# Altium footprint library TV1.PcbLib: 26 footprints (part 1 of 2)
Each footprint in its own frame and in the unit in brackets; x right, y up, seen from the top. Pads: shape width x height; smd on the part's side, far side on the other; paste and mask are expansions set on the pad; w line width, h text height; cw(c..) or ccw(c..) is an arc to the next point about the centre after c.
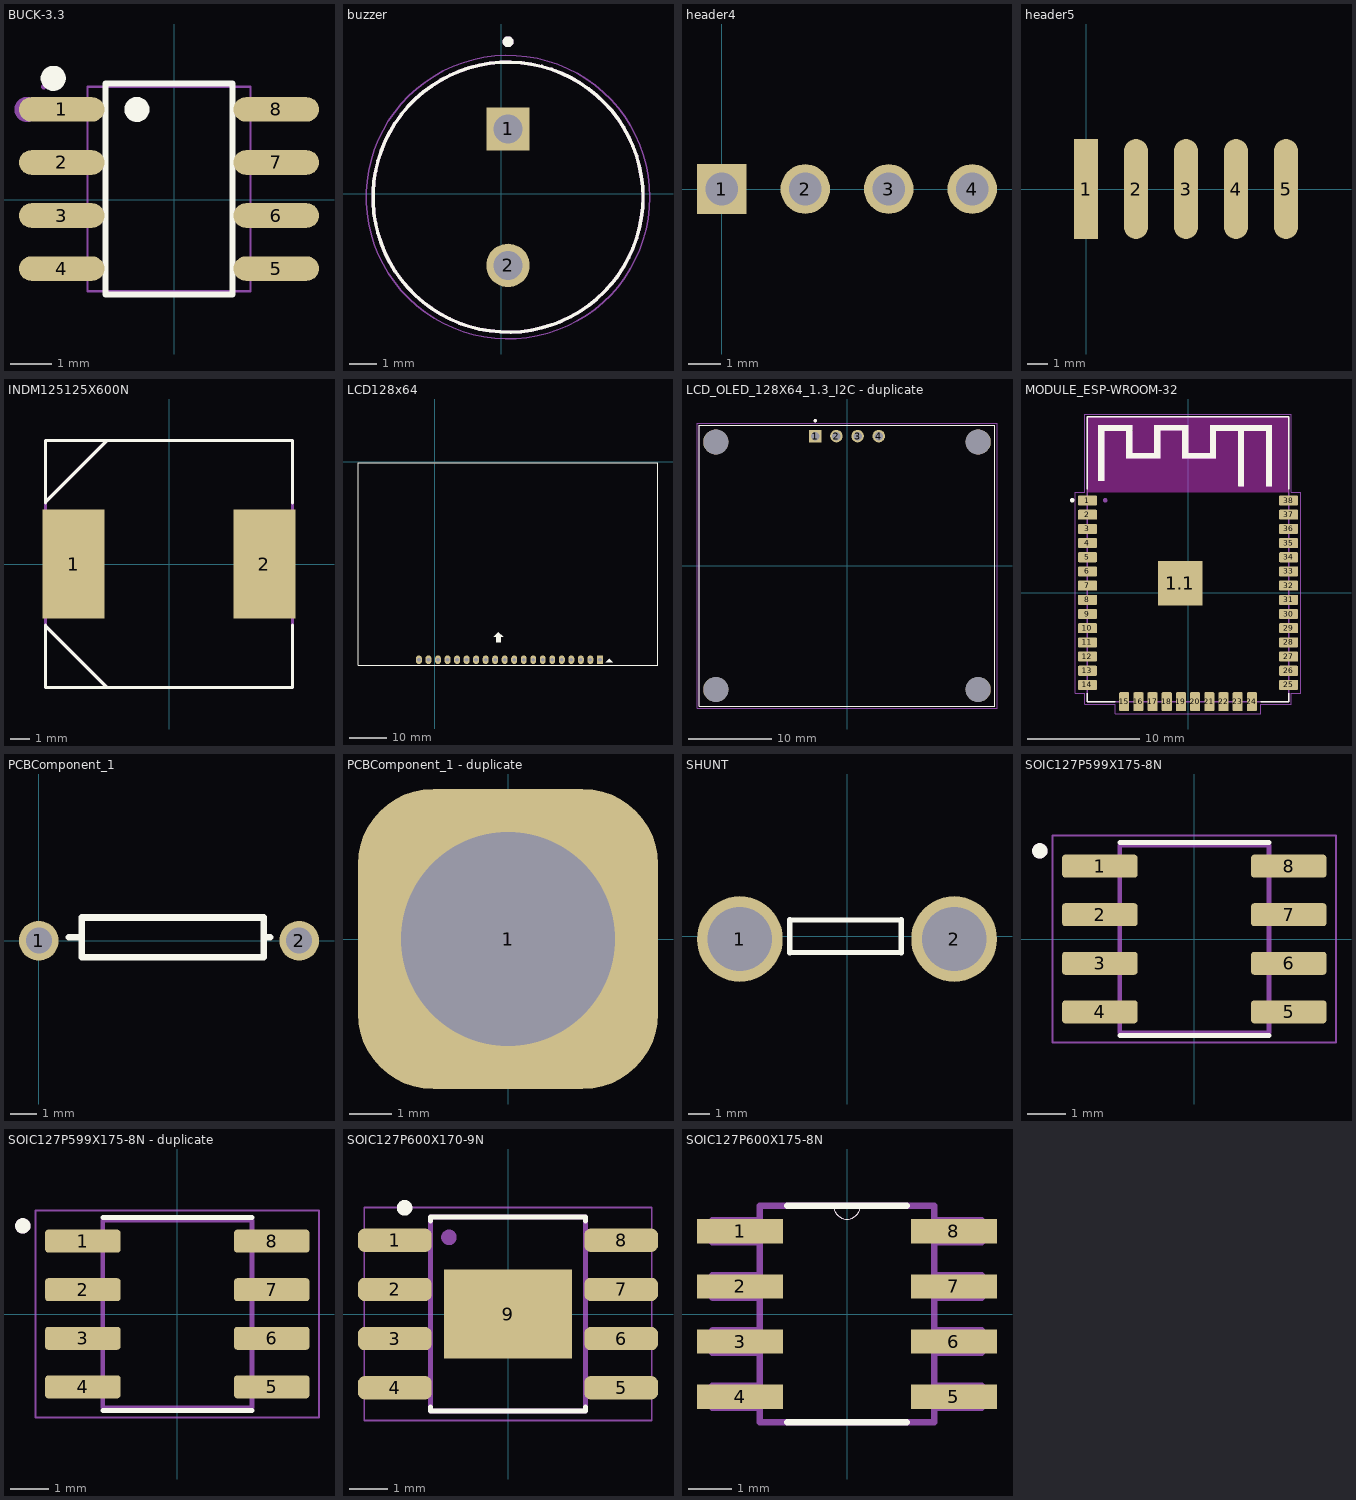
[diagram p0: the footprints below, top view; thin cyan lines are the x and y axes]

## BUCK-3.3 [mm]
pads (8):
  oval 2.045x0.588 smd: 1(-2.697,2.159) 2(-2.697,0.889) 3(-2.697,-0.381) 4(-2.697,-1.651) 5(2.443,-1.651) 6(2.443,-0.381) 7(2.443,0.889) 8(2.443,2.159)
Top Overlay:
  circle w0.3: c-0.896,2.159 r0.15
  circle w0.3: c-2.899,2.906 r0.15
  lines w0.152: -1.648,-2.272 1.394,-2.272 1.394,2.78 -1.648,2.78 -1.648,-2.272
Mechanical 6:
  circle w0.3: c-3.527,2.159 r0.15
Mechanical 15:
  region: -3.127,2.644 -3.152,2.644 -3.187,2.679 -3.187,2.729 -3.152,2.764 -3.127,2.764 -3.102,2.764 -3.067,2.729 -3.067,2.679 -3.102,2.644
  region: -3.127,2.369 -2.292,2.369 -2.292,1.949 -3.127,1.949
  region: -2.302,2.369 -2.067,2.369 -2.067,1.949 -2.302,1.949
  region: -3.127,1.099 -2.292,1.099 -2.292,0.679 -3.127,0.679
  region: -2.302,1.099 -2.067,1.099 -2.067,0.679 -2.302,0.679
  region: -3.127,-0.171 -2.292,-0.171 -2.292,-0.591 -3.127,-0.591
  region: -2.302,-0.171 -2.067,-0.171 -2.067,-0.591 -2.302,-0.591
  region: -3.127,-1.441 -2.292,-1.441 -2.292,-1.861 -3.127,-1.861
  region: -2.302,-1.441 -2.067,-1.441 -2.067,-1.861 -2.302,-1.861
  region: 2.873,2.369 2.038,2.369 2.038,1.949 2.873,1.949
  region: 2.048,2.369 1.813,2.369 1.813,1.949 2.048,1.949
  region: 2.873,1.099 2.038,1.099 2.038,0.679 2.873,0.679
  region: 2.048,1.099 1.813,1.099 1.813,0.679 2.048,0.679
  region: 2.873,-0.171 2.038,-0.171 2.038,-0.591 2.873,-0.591
  region: 2.048,-0.171 1.813,-0.171 1.813,-0.591 2.048,-0.591
  region: 2.873,-1.441 2.038,-1.441 2.038,-1.861 2.873,-1.861
  region: 2.048,-1.441 1.813,-1.441 1.813,-1.861 2.048,-1.861
  lines w0.051: -2.077,-2.196 1.823,-2.196 1.823,2.704 -2.077,2.704 -2.077,-2.196
3D body "XL1509-ADJE1--3DModel-STEP-269445.STEP": height 1.75, standoff 0, extent -3.127,-2.196 2.873,2.704

## buzzer [mm]
pads (2):
  rect 1.59x1.59 hole 1.06: 1(0.254,2.373)
  round 1.59 hole 1.06: 2(0.254,-2.627)
Top Overlay:
  circle w0.127: c0.254,-0.127 r4.95
  circle w0.2: c0.254,5.573 r0.1
Mechanical 13:
  circle w0.127: c0.254,-0.127 r4.95
  circle w0.2: c0.254,5.573 r0.1
Mechanical 15:
  circle w0.05: c0.254,-0.127 r5.2
3D body "MA300D1-1--3DModel-STEP-56544.STEP": height 7.5, standoff -11, extent -4.569,-5.077 5.331,4.823

## header4 [mm]
pads (4):
  rect 1.508x1.508 / inner round 1.508 / far side rect 1.508x1.508 hole 1: 1(0,0)
  round 1.508 hole 1: 2(2.54,0) 3(5.08,0) 4(7.62,0)
3D body "GPCB101-0402AXXXC1AA(A=3_E=1.35_B=2.5).stp": height 4, standoff -1.5, extent -0.254,-0.468 3.746,3.302
3D body "GPCB101-0402AXXXC1AA(A=3_E=1.35_B=2.5).stp": height 4, standoff -1.5, extent 4.445,-0.214 8.445,3.556

## header5 [mm]
pads (5):
  rect 1.2x5 smd: 1(0,0)
  oval 1.2x5 smd: 2(2.5,0) 3(5,0) 4(7.5,0) 5(10,0)

## INDM125125X600N [mil]
pads (2):
  rect 124x217 smd: 1(-190,0) 2(190,0)
Top Overlay:
  lines w6: -246,-121 -246,-123 ; -246,121 -246,246 246,246 246,121 ; -246,123 -123,246 ; -123,-246 -246,-123 ; 246,-121 246,-246 -246,-246 -246,-123
Mechanical 13:
  lines w6: -246,-123 -123,-246 ; -246,123 -123,246 ; -246,-246 246,-246 246,246 -246,246 -246,-246
3D body "step_temp.STEP": height 236.22, standoff 0, extent -246.06,-246.06 246.06,246.06

## LCD128x64 [mil] "LCD Graphic 128x64, 20 pin"
height 400
pads (20):
  rect 62x90 hole 39: 1(1735,-2080)
  oval 62x90 hole 39: 2(1635,-2080) 3(1535,-2080) 4(1435,-2080) 5(1335,-2080) 6(1235,-2080) 7(1135,-2080) 8(1035,-2080) 9(935,-2080) 10(835,-2080) 11(735,-2080) 12(635,-2080) 13(535,-2080) 14(435,-2080) 15(335,-2080) 16(235,-2080) 17(135,-2080) 18(35,-2080) 19(-65,-2080) 20(-165,-2080)
Top Overlay:
  region: 670,-1790 620,-1840 645,-1840 645,-1895 695,-1895 695,-1840 720,-1840
  region: 1832.5,-2072.5 1797.5,-2107.5 1867.5,-2107.5
  lines w8: -805,-2138 2345,-2138 2345,-12 -805,-12 -805,-2138
3D body "User Library-GRAPHIC LCD WG12864B.STEP": height 590.55, standoff -15.75, extent -804.61,-2137.99 2345,-12

## LCD_OLED_128X64_1.3_I2C - duplicate [mm]
pads (8):
  rect 1.508x1.508 / inner round 1.508 / far side rect 1.508x1.508 hole 1: 1(-3.81,15.55)
  round 1.508 hole 1: 2(-1.27,15.55) 3(1.27,15.55) 4(3.81,15.55)
  round 3 hole 3 unplated: ""(-15.75,-14.85) ""(-15.75,14.85) ""(15.75,-14.85) ""(15.75,14.85)
Top Overlay:
  circle w0.2: c-3.81,17.4 r0.1
  lines w0.127: -17.75,-16.85 17.75,-16.85 17.75,16.85 -17.75,16.85 -17.75,-16.85
Mechanical 13:
  circle w0.2: c-3.81,17.4 r0.1
  lines w0.127: -17.75,-16.85 17.75,-16.85 17.75,16.85 -17.75,16.85 -17.75,-16.85
Mechanical 15:
  lines w0.05: -18,-17.1 -18,17.1 18,17.1 18,-17.1 -18,-17.1
3D body "User Library-OLED-1_3-128X64.STEP": height 10.8, standoff -1, extent -17.87,-16.927 17.78,16.673

## MODULE_ESP-WROOM-32 [mm]
pads (39):
  rrect22% 1.7x0.9 smd: 1(-9,8.255) 2(-9,6.985) 3(-9,5.715) 4(-9,4.445) 5(-9,3.175) 6(-9,1.905) 7(-9,0.635) 8(-9,-0.635) 9(-9,-1.905) 10(-9,-3.175) 11(-9,-4.445) 12(-9,-5.715) 13(-9,-6.985) 14(-9,-8.255) 25(9,-8.255) 26(9,-6.985) 27(9,-5.715) 28(9,-4.445) 29(9,-3.175) 30(9,-1.905) 31(9,-0.635) 32(9,0.635) 33(9,1.905) 34(9,3.175) 35(9,4.445) 36(9,5.715) 37(9,6.985) 38(9,8.255)
  rect 4x4 smd: 1.1(-0.7,0.845)
  rrect22% 0.9x1.7 smd: 15(-5.715,-9.755) 16(-4.445,-9.755) 17(-3.175,-9.755) 18(-1.905,-9.755) 19(-0.635,-9.755) 20(0.635,-9.755) 21(1.905,-9.755) 22(3.175,-9.755) 23(4.445,-9.755) 24(5.715,-9.755)
Top Overlay:
  circle w0.2: c-10.365,8.275 r0.1
  region: -7.5,10.529 -8.022,10.529 -8.022,15 -7.5,15
  region: -5,14.516 -8.009,14.516 -8.009,15 -5,15
  region: -5,12.047 -5.522,12.047 -5.522,14.5 -5,14.5
  region: -2.5,12.018 -5.508,12.018 -5.508,12.5 -2.5,12.5
  region: -2.5,12.041 -3.01,12.041 -3.01,14.5 -2.5,14.5
  region: 0,14.549 -3.01,14.549 -3.01,15 0,15
  region: 0,12.049 -0.502,12.049 -0.502,14.5 0,14.5
  region: 2.5,12.05 -0.502,12.05 -0.502,12.5 2.5,12.5
  region: 2.5,12.053 2.009,12.053 2.009,14.5 2.5,14.5
  region: 7.5,14.514 2.012,14.514 2.012,15 7.5,15
  region: 7.5,10.03 7.021,10.03 7.021,15 7.5,15
  region: 5,10.031 4.514,10.031 4.514,15 5,15
  region: 7.5,9.526 7.019,9.526 7.019,10 7.5,10
  region: 5,9.517 4.508,9.517 4.508,10 5,10
  region: -7.5,10.025 -8.02,10.025 -8.02,10.5 -7.5,10.5
  region: 2.5,13.554 2.008,13.554 2.008,15 2.5,15
  lines w0.127: -9,-9 -9,-9.75 -6.5,-9.75 ; -9,9.25 -9,15.75 9,15.75 9,9.25 ; 6.5,-9.75 9,-9.75 9,-9
Keep-Out Layer:
  region: 9,9.012 -9.012,9.012 -9.012,15.75 9,15.75
  region: 9,9.026 -9.026,9.026 -9.026,15.75 9,15.75
Mechanical 13:
  circle w0.2: c-7.425,8.275 r0.1
  region: -7.5,10.55 -8.038,10.55 -8.038,15 -7.5,15
  region: -5,14.574 -8.041,14.574 -8.041,15 -5,15
  region: -5,12.04 -5.518,12.04 -5.518,14.5 -5,14.5
  region: -2.5,12.034 -5.516,12.034 -5.516,12.5 -2.5,12.5
  region: -2.5,12.041 -3.01,12.041 -3.01,14.5 -2.5,14.5
  region: 0,14.531 -3.006,14.531 -3.006,15 0,15
  region: 0,12.04 -0.502,12.04 -0.502,14.5 0,14.5
  region: 2.5,12.012 -0.501,12.012 -0.501,12.5 2.5,12.5
  region: 2.5,12.046 2.008,12.046 2.008,14.5 2.5,14.5
  region: 7.5,14.541 2.015,14.541 2.015,15 7.5,15
  region: 7.5,10.037 7.026,10.037 7.026,15 7.5,15
  region: 5,10.033 4.515,10.033 4.515,15 5,15
  region: 7.5,9.529 7.022,9.529 7.022,10 7.5,10
  region: 5,9.548 4.523,9.548 4.523,10 5,10
  region: -7.5,10.033 -8.027,10.033 -8.027,10.5 -7.5,10.5
  region: 2.5,13.551 2.008,13.551 2.008,15 2.5,15
  lines w0.127: -9,-9.755 9,-9.755 9,15.745 -9,15.745 -9,-9.755
Mechanical 15:
  lines w0.05: -10.1,-9 -9.25,-9 -9.25,-10 -6.5,-10 -6.5,-10.855 6.5,-10.855 6.5,-10 9.25,-10 9.25,-9 10.1,-9 10.1,9 9.25,9 9.25,16 -9.25,16 -9.25,9 -10.1,9 -10.1,-9
3D body "step_temp.STEP": height 3.25, standoff 0, extent -8.983,-9.779 9.017,15.721

## PCBComponent_1 [mil]
pads (2):
  round 60 hole 39.37: 1(0,0) 2(393.7,0)
Top Overlay:
  lines w10: 45,5 65,5 ; 340,5 350,5 ; 65,-25 65,35 340,35 340,-25 65,-25

## PCBComponent_1 - duplicate [mm]
pads (1):
  rrect50% 7x7 hole 5: 1(0,0)

## PCBComponent_1 - duplicate1 [mm]

## SHUNT [mm]
pads (2):
  round 4 hole 3: 1(-5,-0.127) 2(5,-0.127)
Top Overlay:
  lines w0.229: -2.667,-0.762 2.54,-0.762 ; -2.667,0.762 2.54,0.762
  lines w0.254: -2.667,-0.762 -2.667,0.762 ; 2.54,-0.762 2.54,0.762

## SOIC127P599X175-8N [mm]
pads (8):
  rrect25% 1.97x0.6 smd: 1(-2.47,1.905) 2(-2.47,0.635) 3(-2.47,-0.635) 4(-2.47,-1.905) 5(2.47,-1.905) 6(2.47,-0.635) 7(2.47,0.635) 8(2.47,1.905)
Top Overlay:
  circle w0.2: c-4.04,2.305 r0.1
  lines w0.127: -1.95,-2.525 1.95,-2.525 ; -1.95,2.525 1.95,2.525
Mechanical 13:
  circle w0.2: c-4.04,2.305 r0.1
  lines w0.127: -1.95,-2.452 -1.95,2.452 1.95,2.452 1.95,-2.452 -1.95,-2.452
Mechanical 15:
  lines w0.05: -3.705,-2.702 -3.705,2.702 3.705,2.702 3.705,-2.702 -3.705,-2.702
3D body "step_temp.STEP": height 1.75, standoff 0, extent -2.995,-2.452 2.995,2.452

## SOIC127P599X175-8N - duplicate [mm]
pads (8):
  rrect25% 1.97x0.6 smd: 1(-2.47,1.905) 2(-2.47,0.635) 3(-2.47,-0.635) 4(-2.47,-1.905) 5(2.47,-1.905) 6(2.47,-0.635) 7(2.47,0.635) 8(2.47,1.905)
Top Overlay:
  circle w0.2: c-4.04,2.305 r0.1
  lines w0.127: -1.95,-2.525 1.95,-2.525 ; -1.95,2.525 1.95,2.525
Mechanical 13:
  circle w0.2: c-4.04,2.305 r0.1
  lines w0.127: -1.95,-2.452 -1.95,2.452 1.95,2.452 1.95,-2.452 -1.95,-2.452
Mechanical 15:
  lines w0.05: -3.705,-2.702 -3.705,2.702 3.705,2.702 3.705,-2.702 -3.705,-2.702
3D body "step_temp.STEP": height 1.75, standoff 0, extent -2.995,-2.452 2.995,2.452

## SOIC127P600X170-9N [mm]
pads (9):
  rrect54% 1.9x0.6 smd: 1(-2.921,1.905) 2(-2.921,0.635) 3(-2.921,-0.635) 4(-2.921,-1.905) 5(2.921,-1.905) 6(2.921,-0.635) 7(2.921,0.635) 8(2.921,1.905)
  rect 3.3x2.3 smd paste-3: 9(0,0)
Top Overlay:
  circle w0.2: c-2.667,2.74 r0.1
  lines w0.127: -2,-2.4 -2,-2.5 2,-2.5 2,-2.4 ; -2,2.4 -2,2.5 2,2.5 2,2.4
Top Paste:
  region: 0.935,0.135 0.135,0.135 0.135,1.375 0.935,1.375
  region: 0.935,-1.377 0.135,-1.377 0.135,-0.135 0.935,-0.135
  region: -0.135,-1.378 -0.937,-1.378 -0.937,-0.135 -0.135,-0.135
  region: -0.135,0.135 -0.937,0.135 -0.937,1.375 -0.135,1.375
Mechanical 13:
  circle w0.2: c-1.524,1.978 r0.1
  lines w0.127: -2,-2.5 2,-2.5 2,2.5 -2,2.5 -2,-2.5
Mechanical 15:
  lines w0.05: -3.71,-2.75 3.71,-2.75 3.71,2.75 -3.71,2.75 -3.71,-2.75
3D body "step_temp.STEP": height 1.7, standoff 0, extent -3.251,-2.451 2.743,2.451

## SOIC127P600X175-8N [mil]
pads (8):
  rect 78x22 smd: 1(-97,75) 2(-97,25) 3(-97,-25) 4(-97,-75) 5(97,-75) 6(97,-25) 7(97,25) 8(97,75)
Top Overlay:
  lines w0: -12,98 ccw(c0,98) 12,98
  lines w6: -54,-98 54,-98 ; -54,98 -12,98 12,98 54,98
Mechanical 13:
  lines w0: -12,98 ccw(c0,98) 12,98
  lines w6: -122,-85 -79,-85 -79,-65 -122,-65 -122,-85 ; -122,-35 -79,-35 -79,-15 -122,-15 -122,-35 ; -122,15 -79,15 -79,35 -122,35 -122,15 ; -122,65 -79,65 -79,85 -122,85 -122,65 ; -79,-98 -79,98 -12,98 12,98 79,98 79,-98 -79,-98 ; 79,-85 122,-85 122,-65 79,-65 79,-85 ; 79,-35 122,-35 122,-15 79,-15 79,-35 ; 79,15 122,15 122,35 79,35 79,15 ; 79,65 122,65 122,85 79,85 79,65
3D body "step_temp.STEP": height 68.9, standoff 0, extent -118.11,-96.46 118.11,96.46